# EAGLE library part ATTINY2313A/4313 (library orkwerx)
Atmel ATTiny2313A/4313 TinyAVR microcontrollers
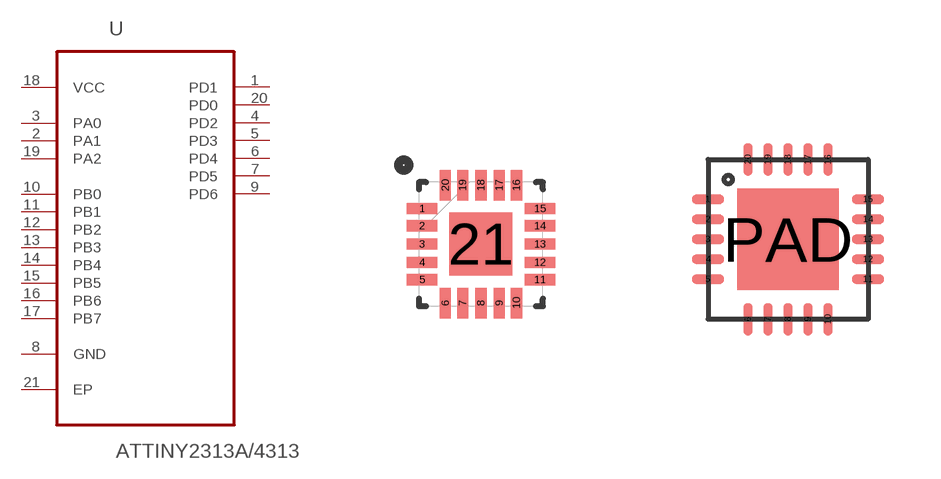
[diagram p3: symbol with the pads of QFN20-3X3MM/0.45MM; footprints QFN20-3X3MM/0.45MM, QFN20-4X4MM/0.5MM]

Designator prefix U

## ATTINY2313A/4313-MMH  [QFN20-3X3MM/0.45MM]
1  PD1
2  PA1
3  PA0
4  PD2
5  PD3
6  PD4
7  PD5
8  GND  pas
9  PD6
10  PB0
11  PB1
12  PB2
13  PB3
14  PB4
15  PB5
16  PB6
17  PB7
18  VCC  pwr
19  PA2
20  PD0
21  EP  pas

## ATTINY2313A/4313-MU  [QFN20-4X4MM/0.5MM]
1  PD1
2  PA1
3  PA0
4  PD2
5  PD3
6  PD4
7  PD5
8  GND  pas
9  PD6
10  PB0
11  PB1
12  PB2
13  PB3
14  PB4
15  PB5
16  PB6
17  PB7
18  VCC  pwr
19  PA2
20  PD0
PAD  EP  pas

## Footprint QFN20-3X3MM/0.45MM (pad centres in mm)
smd 0.762 x 0.279: 1 -1.473,0.889; 2 -1.473,0.457; 3 -1.473,0; 4 -1.473,-0.457; 5 -1.473,-0.889; 11 1.473,-0.889; 12 1.473,-0.457; 13 1.473,0; 14 1.473,0.457; 15 1.473,0.889
smd 0.279 x 0.762: 6 -0.889,-1.473; 7 -0.457,-1.473; 8 0,-1.473; 9 0.457,-1.473; 10 0.889,-1.473; 16 0.889,1.473; 17 0.457,1.473; 18 0,1.473; 19 -0.457,1.473; 20 -0.889,1.473
smd 1.575 x 1.575: 21 0,0

## Footprint QFN20-4X4MM/0.5MM (pad centres in mm)
20QFN-4x4mm/0.5mm 20-pin, 4x4mm MLF/QFN package with 0.5mm pitch.
smd 0.8 x 0.23: 1 -2,1; 2 -2,0.5; 3 -2,0; 4 -2,-0.5; 5 -2,-1; 11 2,-1; 12 2,-0.5; 13 2,0; 14 2,0.5; 15 2,1
smd 0.23 x 0.8: 6 -1,-2; 7 -0.5,-2; 8 0,-2; 9 0.5,-2; 10 1,-2; 16 1,2; 17 0.5,2; 18 0,2; 19 -0.5,2; 20 -1,2
smd 2.54 x 2.54: PAD 0,0